# Altium schematic symbol library kmilo17pet-TI_BattMgmt.SchLib: 950 symbols (part 10 of 60)
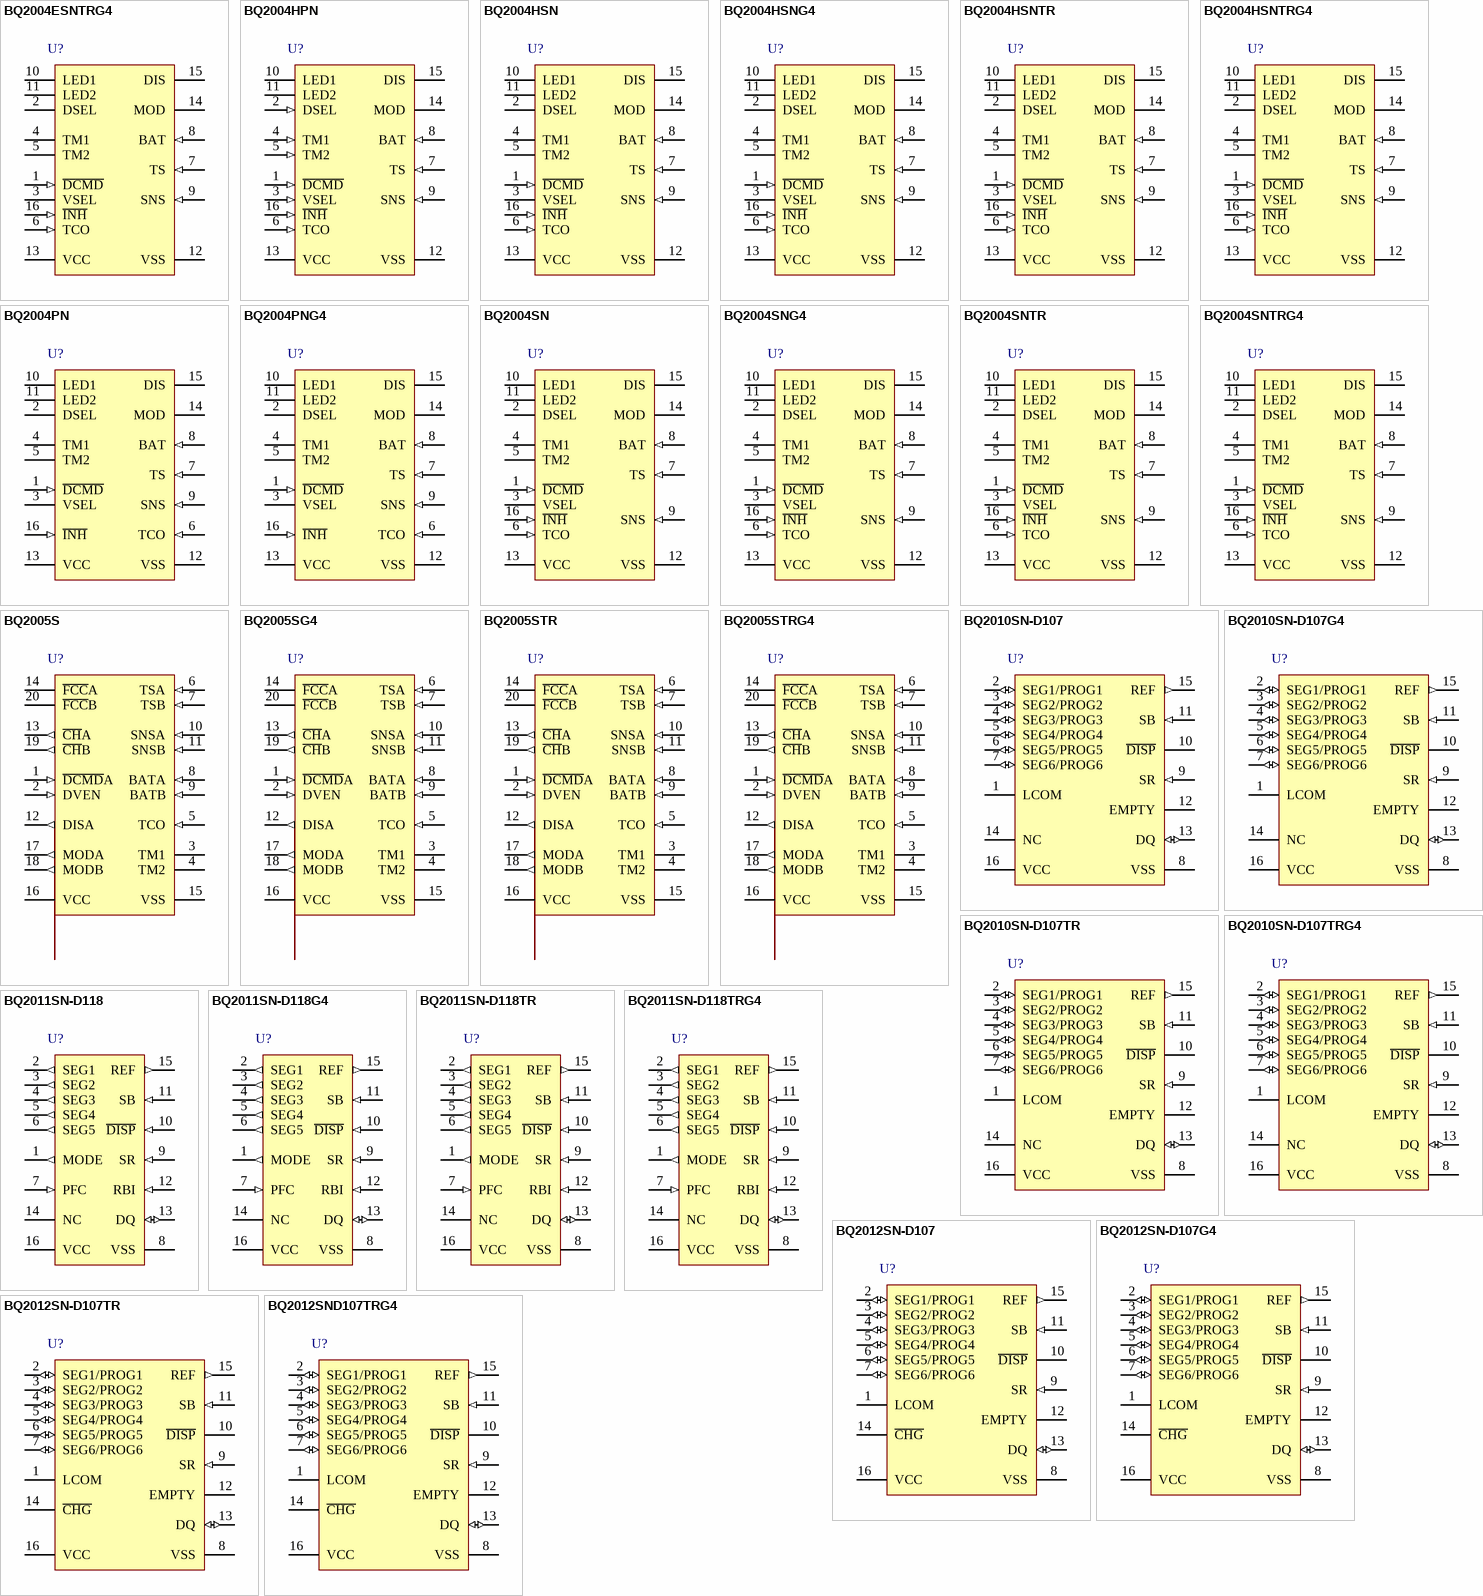
[diagram p43: symbols BQ2004ESNTRG4 to BQ2012SND107TRG4]

## BQ2004SN
designator U?
Switch-Mode NiCd / NiMH Battery Charger with Negative dV, Peak Voltage Detection, dT / dt Termination, 4.5 V, -20 to 70 degC, 16-pin SOIC (D), Green (RoHS & no Sb/Br); PartNumber: BQ2004SN; Manufacturer: Texas Instruments; Lead Acid: N; NiCd: Y; SubFamily: Battery Charge Management; Vin(Min)(V): 4.5; DatasheetVersion: SLUS063B; PackageVersion: revM, Jun-2011; PackageReference: D16; PackageDescription: 16-Pin Plastic Small Outline Integrated Circuit, 9.9 x 3.9 mm, Pitch 1.27 mm Pitch; Supplier 1: Digi-Key; Supplier Part Number 1: 296-9337-5-ND; Supplier Part Number 3: 74K3705; Eco-Plan: Green (RoHS & no Sb/Br); Li-Ion: N; Li-Polymer: N; NiMH: Y; Over Voltage Protection: N; Mounting Technology: Surface Mount; Code_JEDEC: MS-012AC; ComponentLink1Description: Datasheet; ComponentLink1URL: http://www.ti.com/general/docs/lit/getliterature.tsp?genericPartNumber=BQ2004&fileType=pdf
footprint D16_N (SOIC, 16-Leads, Body 9.9x3.9mm, Pitch 1.27mm, IPC Medium Density)
footprint D16_L (SOIC, 16-Leads, Body 9.9x3.9mm, Pitch 1.27mm, IPC High Density)
footprint D16_M (SOIC, 16-Leads, Body 9.9x3.9mm, Pitch 1.27mm, IPC Low Density)
pins: 1 ~{DCMD} (in) "The D\C\M\D\ input controls the conditions that enable discharge-before-charge.D\C\M\D\ is pulled up internally. A negative-going pulse on D\C\M\D\ initiates a discharge to endof- discharge voltage (EDV) on the BAT (See Datasheet)", 2 DSEL "This three-state input configures the charge status display mode of the LED1 and LED2 outputs and can be used to disable top-off and pulsed-trickle. See Table 2.", 3 VSEL "This three-state input controls the voltagetermination technique used by the bq2004. When high, PVD is active.When floating, -deltaV is used. When pulled low,both PVD and -deltaV are disabled.", 4 TM1 "TM1 is three-state input that configure the fast charge safety timer, voltage termination hold-off time, "top-off",and trickle charge control. See Table 1.", 5 TM2 "TM2 is three-state input that configure the fast charge safety timer, voltage termination hold-off time, "top-off",and trickle charge control. See Table 1.", 6 TCO (in) "Input to set maximum allowable battery temperature. If the potential between TS and SNS is less than the voltage at the TCO input, then fast charge or top-off charge is terminated.", 7 TS (in) "Input, referenced to SNS, for an external thermister monitoring battery temperature.", 8 BAT (in) "BAT is the battery voltage sense input, referenced to SNS. This is created by a highimpedance resistor-divider network connected between the positive and the negative terminals of the battery.", 9 SNS (in) "SNS controls the switching of MOD based on an external sense resistor in the current path of the battery. SNS is the reference potential for both the TS and BAT pins. If SNS is connected to VSS, then MOD switches high at the (See Datasheet)", 10 LED1 (hiz) "Push-pull outputs indicating charging status. See Table 2.", 11 LED2 (hiz) "Push-pull outputs indicating charging status. See Table 2.", 12 VSS (power) "Ground", 13 VCC (power) "5.0V, +/-10% power input.", 14 MOD (hiz) "MOD is a push-pull output that is used to control the charging current to the battery.MOD switches high to enable charging current to flow and low to inhibit charging current flow.", 15 DIS (hiz) "Push-pull output used to control an external transistor to discharge the battery before charging.", 16 ~{INH} (in) "When low, the bq2004 suspends all charge actions, drives all outputs to high impedance,and assumes a low-power operational state. When transitioning from low to high, a new charge cycle is started."

## BQ2004SNG4
designator U?
Switch-Mode NiCd / NiMH Battery Charger with Negative dV, Peak Voltage Detection, dT / dt Termination, 4.5 V, -20 to 70 degC, 16-pin SOIC (D), Green (RoHS & no Sb/Br); PartNumber: BQ2004SNG4; Manufacturer: Texas Instruments; Lead Acid: N; NiCd: Y; SubFamily: Battery Charge Management; Vin(Min)(V): 4.5; DatasheetVersion: SLUS063B; PackageVersion: revM, Jun-2011; PackageReference: D16; PackageDescription: 16-Pin Plastic Small Outline Integrated Circuit, 9.9 x 3.9 mm, Pitch 1.27 mm Pitch; Supplier 1: Digi-Key; Supplier Part Number 1: BQ2004SNG4-ND; Supplier Part Number 3: 595-BQ2004SNG4; Eco-Plan: Green (RoHS & no Sb/Br); Li-Ion: N; Li-Polymer: N; NiMH: Y; Over Voltage Protection: N; Mounting Technology: Surface Mount; Code_JEDEC: MS-012AC; ComponentLink1Description: Datasheet; ComponentLink1URL: http://www.ti.com/general/docs/lit/getliterature.tsp?genericPartNumber=BQ2004&fileType=pdf
footprint D16_N (SOIC, 16-Leads, Body 9.9x3.9mm, Pitch 1.27mm, IPC Medium Density)
footprint D16_L (SOIC, 16-Leads, Body 9.9x3.9mm, Pitch 1.27mm, IPC High Density)
footprint D16_M (SOIC, 16-Leads, Body 9.9x3.9mm, Pitch 1.27mm, IPC Low Density)
pins: 1 ~{DCMD} (in) "The D\C\M\D\ input controls the conditions that enable discharge-before-charge.D\C\M\D\ is pulled up internally. A negative-going pulse on D\C\M\D\ initiates a discharge to endof- discharge voltage (EDV) on the BAT (See Datasheet)", 2 DSEL "This three-state input configures the charge status display mode of the LED1 and LED2 outputs and can be used to disable top-off and pulsed-trickle. See Table 2.", 3 VSEL "This three-state input controls the voltagetermination technique used by the bq2004. When high, PVD is active.When floating, -deltaV is used. When pulled low,both PVD and -deltaV are disabled.", 4 TM1 "TM1 is three-state input that configure the fast charge safety timer, voltage termination hold-off time, "top-off",and trickle charge control. See Table 1.", 5 TM2 "TM2 is three-state input that configure the fast charge safety timer, voltage termination hold-off time, "top-off",and trickle charge control. See Table 1.", 6 TCO (in) "Input to set maximum allowable battery temperature. If the potential between TS and SNS is less than the voltage at the TCO input, then fast charge or top-off charge is terminated.", 7 TS (in) "Input, referenced to SNS, for an external thermister monitoring battery temperature.", 8 BAT (in) "BAT is the battery voltage sense input, referenced to SNS. This is created by a highimpedance resistor-divider network connected between the positive and the negative terminals of the battery.", 9 SNS (in) "SNS controls the switching of MOD based on an external sense resistor in the current path of the battery. SNS is the reference potential for both the TS and BAT pins. If SNS is connected to VSS, then MOD switches high at the (See Datasheet)", 10 LED1 (hiz) "Push-pull outputs indicating charging status. See Table 2.", 11 LED2 (hiz) "Push-pull outputs indicating charging status. See Table 2.", 12 VSS (power) "Ground", 13 VCC (power) "5.0V, +/-10% power input.", 14 MOD (hiz) "MOD is a push-pull output that is used to control the charging current to the battery.MOD switches high to enable charging current to flow and low to inhibit charging current flow.", 15 DIS (hiz) "Push-pull output used to control an external transistor to discharge the battery before charging.", 16 ~{INH} (in) "When low, the bq2004 suspends all charge actions, drives all outputs to high impedance,and assumes a low-power operational state. When transitioning from low to high, a new charge cycle is started."

## BQ2004SNTR
designator U?
Switch-Mode NiCd / NiMH Battery Charger with Negative dV, Peak Voltage Detection, dT / dt Termination, 4.5 V, -20 to 70 degC, 16-pin SOIC (D), Green (RoHS & no Sb/Br); PartNumber: BQ2004SNTR; Manufacturer: Texas Instruments; Lead Acid: N; NiCd: Y; SubFamily: Battery Charge Management; Vin(Min)(V): 4.5; DatasheetVersion: SLUS063B; PackageVersion: revM, Jun-2011; PackageReference: D16; PackageDescription: 16-Pin Plastic Small Outline Integrated Circuit, 9.9 x 3.9 mm, Pitch 1.27 mm Pitch; Supplier 1: Digi-Key; Supplier Part Number 1: BQ2004SNTR-ND; Supplier Part Number 3: 595-BQ2004SNTR; Eco-Plan: Green (RoHS & no Sb/Br); Li-Ion: N; Li-Polymer: N; NiMH: Y; Over Voltage Protection: N; Mounting Technology: Surface Mount; Code_JEDEC: MS-012AC; ComponentLink1Description: Datasheet; ComponentLink1URL: http://www.ti.com/general/docs/lit/getliterature.tsp?genericPartNumber=BQ2004&fileType=pdf
footprint D16_N (SOIC, 16-Leads, Body 9.9x3.9mm, Pitch 1.27mm, IPC Medium Density)
footprint D16_L (SOIC, 16-Leads, Body 9.9x3.9mm, Pitch 1.27mm, IPC High Density)
footprint D16_M (SOIC, 16-Leads, Body 9.9x3.9mm, Pitch 1.27mm, IPC Low Density)
pins: 1 ~{DCMD} (in) "The D\C\M\D\ input controls the conditions that enable discharge-before-charge.D\C\M\D\ is pulled up internally. A negative-going pulse on D\C\M\D\ initiates a discharge to endof- discharge voltage (EDV) on the BAT (See Datasheet)", 2 DSEL "This three-state input configures the charge status display mode of the LED1 and LED2 outputs and can be used to disable top-off and pulsed-trickle. See Table 2.", 3 VSEL "This three-state input controls the voltagetermination technique used by the bq2004. When high, PVD is active.When floating, -deltaV is used. When pulled low,both PVD and -deltaV are disabled.", 4 TM1 "TM1 is three-state input that configure the fast charge safety timer, voltage termination hold-off time, "top-off",and trickle charge control. See Table 1.", 5 TM2 "TM2 is three-state input that configure the fast charge safety timer, voltage termination hold-off time, "top-off",and trickle charge control. See Table 1.", 6 TCO (in) "Input to set maximum allowable battery temperature. If the potential between TS and SNS is less than the voltage at the TCO input, then fast charge or top-off charge is terminated.", 7 TS (in) "Input, referenced to SNS, for an external thermister monitoring battery temperature.", 8 BAT (in) "BAT is the battery voltage sense input, referenced to SNS. This is created by a highimpedance resistor-divider network connected between the positive and the negative terminals of the battery.", 9 SNS (in) "SNS controls the switching of MOD based on an external sense resistor in the current path of the battery. SNS is the reference potential for both the TS and BAT pins. If SNS is connected to VSS, then MOD switches high at the (See Datasheet)", 10 LED1 (hiz) "Push-pull outputs indicating charging status. See Table 2.", 11 LED2 (hiz) "Push-pull outputs indicating charging status. See Table 2.", 12 VSS (power) "Ground", 13 VCC (power) "5.0V, +/-10% power input.", 14 MOD (hiz) "MOD is a push-pull output that is used to control the charging current to the battery.MOD switches high to enable charging current to flow and low to inhibit charging current flow.", 15 DIS (hiz) "Push-pull output used to control an external transistor to discharge the battery before charging.", 16 ~{INH} (in) "When low, the bq2004 suspends all charge actions, drives all outputs to high impedance,and assumes a low-power operational state. When transitioning from low to high, a new charge cycle is started."

## BQ2004SNTRG4
designator U?
Switch-Mode NiCd / NiMH Battery Charger with Negative dV, Peak Voltage Detection, dT / dt Termination, 4.5 V, -20 to 70 degC, 16-pin SOIC (D), Green (RoHS & no Sb/Br); PartNumber: BQ2004SNTRG4; Manufacturer: Texas Instruments; Lead Acid: N; NiCd: Y; SubFamily: Battery Charge Management; Vin(Min)(V): 4.5; DatasheetVersion: SLUS063B; PackageVersion: revM, Jun-2011; PackageReference: D16; PackageDescription: 16-Pin Plastic Small Outline Integrated Circuit, 9.9 x 3.9 mm, Pitch 1.27 mm Pitch; Supplier 1: Digi-Key; Supplier Part Number 1: BQ2004SNTRG4-ND; Supplier Part Number 3: 595-BQ2004SNTRG4; Eco-Plan: Green (RoHS & no Sb/Br); Li-Ion: N; Li-Polymer: N; NiMH: Y; Over Voltage Protection: N; Mounting Technology: Surface Mount; Code_JEDEC: MS-012AC; ComponentLink1Description: Datasheet; ComponentLink1URL: http://www.ti.com/general/docs/lit/getliterature.tsp?genericPartNumber=BQ2004&fileType=pdf
footprint D16_N (SOIC, 16-Leads, Body 9.9x3.9mm, Pitch 1.27mm, IPC Medium Density)
footprint D16_L (SOIC, 16-Leads, Body 9.9x3.9mm, Pitch 1.27mm, IPC High Density)
footprint D16_M (SOIC, 16-Leads, Body 9.9x3.9mm, Pitch 1.27mm, IPC Low Density)
pins: 1 ~{DCMD} (in) "The D\C\M\D\ input controls the conditions that enable discharge-before-charge.D\C\M\D\ is pulled up internally. A negative-going pulse on D\C\M\D\ initiates a discharge to endof- discharge voltage (EDV) on the BAT (See Datasheet)", 2 DSEL "This three-state input configures the charge status display mode of the LED1 and LED2 outputs and can be used to disable top-off and pulsed-trickle. See Table 2.", 3 VSEL "This three-state input controls the voltagetermination technique used by the bq2004. When high, PVD is active.When floating, -deltaV is used. When pulled low,both PVD and -deltaV are disabled.", 4 TM1 "TM1 is three-state input that configure the fast charge safety timer, voltage termination hold-off time, "top-off",and trickle charge control. See Table 1.", 5 TM2 "TM2 is three-state input that configure the fast charge safety timer, voltage termination hold-off time, "top-off",and trickle charge control. See Table 1.", 6 TCO (in) "Input to set maximum allowable battery temperature. If the potential between TS and SNS is less than the voltage at the TCO input, then fast charge or top-off charge is terminated.", 7 TS (in) "Input, referenced to SNS, for an external thermister monitoring battery temperature.", 8 BAT (in) "BAT is the battery voltage sense input, referenced to SNS. This is created by a highimpedance resistor-divider network connected between the positive and the negative terminals of the battery.", 9 SNS (in) "SNS controls the switching of MOD based on an external sense resistor in the current path of the battery. SNS is the reference potential for both the TS and BAT pins. If SNS is connected to VSS, then MOD switches high at the (See Datasheet)", 10 LED1 (hiz) "Push-pull outputs indicating charging status. See Table 2.", 11 LED2 (hiz) "Push-pull outputs indicating charging status. See Table 2.", 12 VSS (power) "Ground", 13 VCC (power) "5.0V, +/-10% power input.", 14 MOD (hiz) "MOD is a push-pull output that is used to control the charging current to the battery.MOD switches high to enable charging current to flow and low to inhibit charging current flow.", 15 DIS (hiz) "Push-pull output used to control an external transistor to discharge the battery before charging.", 16 ~{INH} (in) "When low, the bq2004 suspends all charge actions, drives all outputs to high impedance,and assumes a low-power operational state. When transitioning from low to high, a new charge cycle is started."

## BQ2005S
designator U?
Switch-Mode NiCd / NiMH Battery Charger for Sequential Charging of Dual Battery Packs , 4.5 V, -20 to 70 degC, 20-pin SOIC (DW), Green (RoHS & no Sb/Br); PartNumber: BQ2005S; Manufacturer: Texas Instruments; Lead Acid: N; NiCd: Y; SubFamily: Battery Charge Management; Vin(Min)(V): 4.5; DatasheetVersion: SLUS079A; PackageVersion: revG, Jan-2011; PackageReference: DW20; PackageDescription: 20-Pin Plastic Small Outline Integrated Circuit, 12.8 x 7.5 mm, Pitch 1.27 mm Pitch; Supplier 1: Digi-Key; Supplier Part Number 1: 296-9338-5-ND; Supplier Part Number 3: 595-BQ2005S; Eco-Plan: Green (RoHS & no Sb/Br); Li-Ion: N; Li-Polymer: N; NiMH: Y; Over Voltage Protection: N; Mounting Technology: Surface Mount; Code_JEDEC: MS-013-AC; ComponentLink1Description: Datasheet; ComponentLink1URL: http://www.ti.com/general/docs/lit/getliterature.tsp?genericPartNumber=BQ2005&fileType=pdf
footprint DW20_N (SOIC, 20-Leads, Body 12.8x7.5mm, Pitch 1.27mm, IPC Medium Density)
footprint DW20_L (SOIC, 20-Leads, Body 12.8x7.5mm, Pitch 1.27mm, IPC High Density)
footprint DW20_M (SOIC, 20-Leads, Body 12.8x7.5mm, Pitch 1.27mm, IPC Low Density)
pins: 1 ~{DCMD}A (in) "Discharge-before-charge control input, battery A. D\C\M\D\A controls the discharge-before-charge function of the bq2005. A negative-going pulse on D\C\M\D\A initiates a discharge to EDV followed by a charge if conditions (See Datasheet)", 2 DVEN (in) "-Delta venable input .This input enables/disables -delta V charge termination. If DVEN is high, the -delta V test is enabled. If DVEN is low, -delta V test is disabled.The state of DVEN may be changed at any time.", 3 TM1 "Timer mode input.TM1 is three-state input that configure the fast charge safety timer, -delta V hold off time, and that enhance/disable top-off.See Table 2.", 4 TM2 "Timer mode input.TM2 is three-state input that configure the fast charge safety timer, -delta V hold off time, and that enhance/disable top-off.See Table 2.", 5 TCO (in) "Temperature cutoff threshold input.Input to set maximum allowable battery temperature.If the potential between TSA and SNSA or TSB and SNSB is less than the voltage at the TCO input,then fast charge or top-off charge is (See Datasheet)", 6 TSA (in) "Temperature sense input.Input,referenced to SNSA or SNSB,respectively,for an external thermistor monitoring battery temperature.", 7 TSB (in) "Temperature sense input.Input,referenced to SNSA or SNSB,respectively,for an external thermistor monitoring battery temperature.", 8 BATA (in) "Voltage input.The battery voltage sense input,referenced to SNSA,B,respectively.This is created by a high-impedance resistor divider network connected between the positive and the negative terminals of the battery.", 9 BATB (in) "Voltage input.The battery voltage sense input,referenced to SNSA,B,respectively.This is created by a high-impedance resistor divider network connected between the positive and the negative terminals of the battery.", 10 SNSA (in) "Charging current sense input,SNSA,B controls the switching of MODA,B based on the voltage across anexternal sense resistor in the current path of the battery.SNS is the reference potential for the TS and BAT pins.If SNS is (See Datasheet)", 11 SNSB (in) "Charging current sense input,SNSA,B controls the switching of MODA,B based on the voltage across anexternal sense resistor in the current path of the battery.SNS is the reference potential for the TS and BAT pins.If SNS is (See Datasheet)", 12 DISA (out) "Discharge control output.Push-pull output used to control an external transistor to discharge battery A before charging.", 13 ~{CH}A (out) "Charge status output.Push-pull output indicating charging status for batteries A and B, respectively. See Figure 1 and Table 2.", 14 ~{FCC}A (oc) "Fast charge complete output.Open-drain outputs indicating fast charge complete for batteries A and B,respectively.See Figure 1 and Table 2.", 15 VSS (power) "Ground", 16 VCC (power) "VCC supply input.5.0 V, +/- 10% power input.", 17 MODA (out) "Charge current control output.MODA,B is a push-pull output that  is used to control the charging current to the battery. MODA,B switches high to enable charging current to flow and low to inhibit charging current flow (See Datasheet)", 18 MODB (out) "Charge current control output.MODA,B is a push-pull output that  is used to control the charging current to the battery. MODA,B switches high to enable charging current to flow and low to inhibit charging current flow (See Datasheet)", 19 ~{CH}B (out) "Charge status output.Push-pull output indicating charging status for batteries A and B,respectively. See Figure1 and Table 2.", 20 ~{FCC}B (oc) "Fast charge complete output.Open-drain output s indicating fast charge complete for batteries A and B,respectively.See Figure1 and Table 2."

## BQ2005SG4
designator U?
Switch-Mode NiCd / NiMH Battery Charger for Sequential Charging of Dual Battery Packs , 4.5 V, -20 to 70 degC, 20-pin SOIC (DW), Green (RoHS & no Sb/Br); PartNumber: BQ2005SG4; Manufacturer: Texas Instruments; Lead Acid: N; NiCd: Y; SubFamily: Battery Charge Management; Vin(Min)(V): 4.5; DatasheetVersion: SLUS079A; PackageVersion: revG, Jan-2011; PackageReference: DW20; PackageDescription: 20-Pin Plastic Small Outline Integrated Circuit, 12.8 x 7.5 mm, Pitch 1.27 mm Pitch; Supplier 1: Digi-Key; Supplier Part Number 1: BQ2005SG4-ND; Supplier Part Number 3: 595-BQ2005SG4; Eco-Plan: Green (RoHS & no Sb/Br); Li-Ion: N; Li-Polymer: N; NiMH: Y; Over Voltage Protection: N; Mounting Technology: Surface Mount; Code_JEDEC: MS-013-AC; ComponentLink1Description: Datasheet; ComponentLink1URL: http://www.ti.com/general/docs/lit/getliterature.tsp?genericPartNumber=BQ2005&fileType=pdf
footprint DW20_N (SOIC, 20-Leads, Body 12.8x7.5mm, Pitch 1.27mm, IPC Medium Density)
footprint DW20_L (SOIC, 20-Leads, Body 12.8x7.5mm, Pitch 1.27mm, IPC High Density)
footprint DW20_M (SOIC, 20-Leads, Body 12.8x7.5mm, Pitch 1.27mm, IPC Low Density)
pins: 1 ~{DCMD}A (in) "Discharge-before-charge control input, battery A. D\C\M\D\A controls the discharge-before-charge function of the bq2005. A negative-going pulse on D\C\M\D\A initiates a discharge to EDV followed by a charge if conditions (See Datasheet)", 2 DVEN (in) "-Delta venable input .This input enables/disables -delta V charge termination. If DVEN is high, the -delta V test is enabled. If DVEN is low, -delta V test is disabled.The state of DVEN may be changed at any time.", 3 TM1 "Timer mode input.TM1 is three-state input that configure the fast charge safety timer, -delta V hold off time, and that enhance/disable top-off.See Table 2.", 4 TM2 "Timer mode input.TM2 is three-state input that configure the fast charge safety timer, -delta V hold off time, and that enhance/disable top-off.See Table 2.", 5 TCO (in) "Temperature cutoff threshold input.Input to set maximum allowable battery temperature.If the potential between TSA and SNSA or TSB and SNSB is less than the voltage at the TCO input,then fast charge or top-off charge is (See Datasheet)", 6 TSA (in) "Temperature sense input.Input,referenced to SNSA or SNSB,respectively,for an external thermistor monitoring battery temperature.", 7 TSB (in) "Temperature sense input.Input,referenced to SNSA or SNSB,respectively,for an external thermistor monitoring battery temperature.", 8 BATA (in) "Voltage input.The battery voltage sense input,referenced to SNSA,B,respectively.This is created by a high-impedance resistor divider network connected between the positive and the negative terminals of the battery.", 9 BATB (in) "Voltage input.The battery voltage sense input,referenced to SNSA,B,respectively.This is created by a high-impedance resistor divider network connected between the positive and the negative terminals of the battery.", 10 SNSA (in) "Charging current sense input,SNSA,B controls the switching of MODA,B based on the voltage across anexternal sense resistor in the current path of the battery.SNS is the reference potential for the TS and BAT pins.If SNS is (See Datasheet)", 11 SNSB (in) "Charging current sense input,SNSA,B controls the switching of MODA,B based on the voltage across anexternal sense resistor in the current path of the battery.SNS is the reference potential for the TS and BAT pins.If SNS is (See Datasheet)", 12 DISA (out) "Discharge control output.Push-pull output used to control an external transistor to discharge battery A before charging.", 13 ~{CH}A (out) "Charge status output.Push-pull output indicating charging status for batteries A and B, respectively. See Figure 1 and Table 2.", 14 ~{FCC}A (oc) "Fast charge complete output.Open-drain outputs indicating fast charge complete for batteries A and B,respectively.See Figure 1 and Table 2.", 15 VSS (power) "Ground", 16 VCC (power) "VCC supply input.5.0 V, +/- 10% power input.", 17 MODA (out) "Charge current control output.MODA,B is a push-pull output that  is used to control the charging current to the battery. MODA,B switches high to enable charging current to flow and low to inhibit charging current flow (See Datasheet)", 18 MODB (out) "Charge current control output.MODA,B is a push-pull output that  is used to control the charging current to the battery. MODA,B switches high to enable charging current to flow and low to inhibit charging current flow (See Datasheet)", 19 ~{CH}B (out) "Charge status output.Push-pull output indicating charging status for batteries A and B,respectively. See Figure1 and Table 2.", 20 ~{FCC}B (oc) "Fast charge complete output.Open-drain output s indicating fast charge complete for batteries A and B,respectively.See Figure1 and Table 2."

## BQ2005STR
designator U?
Switch-Mode NiCd / NiMH Battery Charger for Sequential Charging of Dual Battery Packs , 4.5 V, -20 to 70 degC, 20-pin SOIC (DW), Green (RoHS & no Sb/Br); PartNumber: BQ2005STR; Manufacturer: Texas Instruments; Lead Acid: N; NiCd: Y; SubFamily: Battery Charge Management; Vin(Min)(V): 4.5; DatasheetVersion: SLUS079A; PackageVersion: revG, Jan-2011; PackageReference: DW20; PackageDescription: 20-Pin Plastic Small Outline Integrated Circuit, 12.8 x 7.5 mm, Pitch 1.27 mm Pitch; Supplier 1: Digi-Key; Supplier Part Number 1: BQ2005STR-ND; Supplier Part Number 3: 595-BQ2005STR; Eco-Plan: Green (RoHS & no Sb/Br); Li-Ion: N; Li-Polymer: N; NiMH: Y; Over Voltage Protection: N; Mounting Technology: Surface Mount; Code_JEDEC: MS-013-AC; ComponentLink1Description: Datasheet; ComponentLink1URL: http://www.ti.com/general/docs/lit/getliterature.tsp?genericPartNumber=BQ2005&fileType=pdf
footprint DW20_N (SOIC, 20-Leads, Body 12.8x7.5mm, Pitch 1.27mm, IPC Medium Density)
footprint DW20_L (SOIC, 20-Leads, Body 12.8x7.5mm, Pitch 1.27mm, IPC High Density)
footprint DW20_M (SOIC, 20-Leads, Body 12.8x7.5mm, Pitch 1.27mm, IPC Low Density)
pins: 1 ~{DCMD}A (in) "Discharge-before-charge control input, battery A. D\C\M\D\A controls the discharge-before-charge function of the bq2005. A negative-going pulse on D\C\M\D\A initiates a discharge to EDV followed by a charge if conditions (See Datasheet)", 2 DVEN (in) "-Delta venable input .This input enables/disables -delta V charge termination. If DVEN is high, the -delta V test is enabled. If DVEN is low, -delta V test is disabled.The state of DVEN may be changed at any time.", 3 TM1 "Timer mode input.TM1 is three-state input that configure the fast charge safety timer, -delta V hold off time, and that enhance/disable top-off.See Table 2.", 4 TM2 "Timer mode input.TM2 is three-state input that configure the fast charge safety timer, -delta V hold off time, and that enhance/disable top-off.See Table 2.", 5 TCO (in) "Temperature cutoff threshold input.Input to set maximum allowable battery temperature.If the potential between TSA and SNSA or TSB and SNSB is less than the voltage at the TCO input,then fast charge or top-off charge is (See Datasheet)", 6 TSA (in) "Temperature sense input.Input,referenced to SNSA or SNSB,respectively,for an external thermistor monitoring battery temperature.", 7 TSB (in) "Temperature sense input.Input,referenced to SNSA or SNSB,respectively,for an external thermistor monitoring battery temperature.", 8 BATA (in) "Voltage input.The battery voltage sense input,referenced to SNSA,B,respectively.This is created by a high-impedance resistor divider network connected between the positive and the negative terminals of the battery.", 9 BATB (in) "Voltage input.The battery voltage sense input,referenced to SNSA,B,respectively.This is created by a high-impedance resistor divider network connected between the positive and the negative terminals of the battery.", 10 SNSA (in) "Charging current sense input,SNSA,B controls the switching of MODA,B based on the voltage across anexternal sense resistor in the current path of the battery.SNS is the reference potential for the TS and BAT pins.If SNS is (See Datasheet)", 11 SNSB (in) "Charging current sense input,SNSA,B controls the switching of MODA,B based on the voltage across anexternal sense resistor in the current path of the battery.SNS is the reference potential for the TS and BAT pins.If SNS is (See Datasheet)", 12 DISA (out) "Discharge control output.Push-pull output used to control an external transistor to discharge battery A before charging.", 13 ~{CH}A (out) "Charge status output.Push-pull output indicating charging status for batteries A and B, respectively. See Figure 1 and Table 2.", 14 ~{FCC}A (oc) "Fast charge complete output.Open-drain outputs indicating fast charge complete for batteries A and B,respectively.See Figure 1 and Table 2.", 15 VSS (power) "Ground", 16 VCC (power) "VCC supply input.5.0 V, +/- 10% power input.", 17 MODA (out) "Charge current control output.MODA,B is a push-pull output that  is used to control the charging current to the battery. MODA,B switches high to enable charging current to flow and low to inhibit charging current flow (See Datasheet)", 18 MODB (out) "Charge current control output.MODA,B is a push-pull output that  is used to control the charging current to the battery. MODA,B switches high to enable charging current to flow and low to inhibit charging current flow (See Datasheet)", 19 ~{CH}B (out) "Charge status output.Push-pull output indicating charging status for batteries A and B,respectively. See Figure1 and Table 2.", 20 ~{FCC}B (oc) "Fast charge complete output.Open-drain output s indicating fast charge complete for batteries A and B,respectively.See Figure1 and Table 2."

## BQ2005STRG4
designator U?
Switch-Mode NiCd / NiMH Battery Charger for Sequential Charging of Dual Battery Packs , 4.5 V, -20 to 70 degC, 20-pin SOIC (DW), Green (RoHS & no Sb/Br); PartNumber: BQ2005STRG4; Manufacturer: Texas Instruments; Lead Acid: N; NiCd: Y; SubFamily: Battery Charge Management; Vin(Min)(V): 4.5; DatasheetVersion: SLUS079A; PackageVersion: revG, Jan-2011; PackageReference: DW20; PackageDescription: 20-Pin Plastic Small Outline Integrated Circuit, 12.8 x 7.5 mm, Pitch 1.27 mm Pitch; Supplier 1: Digi-Key; Supplier Part Number 1: BQ2005STRG4-ND; Eco-Plan: Green (RoHS & no Sb/Br); Li-Ion: N; Li-Polymer: N; NiMH: Y; Over Voltage Protection: N; Mounting Technology: Surface Mount; Code_JEDEC: MS-013-AC; ComponentLink1Description: Datasheet; ComponentLink1URL: http://www.ti.com/general/docs/lit/getliterature.tsp?genericPartNumber=BQ2005&fileType=pdf
footprint DW20_N (SOIC, 20-Leads, Body 12.8x7.5mm, Pitch 1.27mm, IPC Medium Density)
footprint DW20_L (SOIC, 20-Leads, Body 12.8x7.5mm, Pitch 1.27mm, IPC High Density)
footprint DW20_M (SOIC, 20-Leads, Body 12.8x7.5mm, Pitch 1.27mm, IPC Low Density)
pins: 1 ~{DCMD}A (in) "Discharge-before-charge control input, battery A. D\C\M\D\A controls the discharge-before-charge function of the bq2005. A negative-going pulse on D\C\M\D\A initiates a discharge to EDV followed by a charge if conditions (See Datasheet)", 2 DVEN (in) "-Delta venable input .This input enables/disables -delta V charge termination. If DVEN is high, the -delta V test is enabled. If DVEN is low, -delta V test is disabled.The state of DVEN may be changed at any time.", 3 TM1 "Timer mode input.TM1 is three-state input that configure the fast charge safety timer, -delta V hold off time, and that enhance/disable top-off.See Table 2.", 4 TM2 "Timer mode input.TM2 is three-state input that configure the fast charge safety timer, -delta V hold off time, and that enhance/disable top-off.See Table 2.", 5 TCO (in) "Temperature cutoff threshold input.Input to set maximum allowable battery temperature.If the potential between TSA and SNSA or TSB and SNSB is less than the voltage at the TCO input,then fast charge or top-off charge is (See Datasheet)", 6 TSA (in) "Temperature sense input.Input,referenced to SNSA or SNSB,respectively,for an external thermistor monitoring battery temperature.", 7 TSB (in) "Temperature sense input.Input,referenced to SNSA or SNSB,respectively,for an external thermistor monitoring battery temperature.", 8 BATA (in) "Voltage input.The battery voltage sense input,referenced to SNSA,B,respectively.This is created by a high-impedance resistor divider network connected between the positive and the negative terminals of the battery.", 9 BATB (in) "Voltage input.The battery voltage sense input,referenced to SNSA,B,respectively.This is created by a high-impedance resistor divider network connected between the positive and the negative terminals of the battery.", 10 SNSA (in) "Charging current sense input,SNSA,B controls the switching of MODA,B based on the voltage across anexternal sense resistor in the current path of the battery.SNS is the reference potential for the TS and BAT pins.If SNS is (See Datasheet)", 11 SNSB (in) "Charging current sense input,SNSA,B controls the switching of MODA,B based on the voltage across anexternal sense resistor in the current path of the battery.SNS is the reference potential for the TS and BAT pins.If SNS is (See Datasheet)", 12 DISA (out) "Discharge control output.Push-pull output used to control an external transistor to discharge battery A before charging.", 13 ~{CH}A (out) "Charge status output.Push-pull output indicating charging status for batteries A and B, respectively. See Figure 1 and Table 2.", 14 ~{FCC}A (oc) "Fast charge complete output.Open-drain outputs indicating fast charge complete for batteries A and B,respectively.See Figure 1 and Table 2.", 15 VSS (power) "Ground", 16 VCC (power) "VCC supply input.5.0 V, +/- 10% power input.", 17 MODA (out) "Charge current control output.MODA,B is a push-pull output that  is used to control the charging current to the battery. MODA,B switches high to enable charging current to flow and low to inhibit charging current flow (See Datasheet)", 18 MODB (out) "Charge current control output.MODA,B is a push-pull output that  is used to control the charging current to the battery. MODA,B switches high to enable charging current to flow and low to inhibit charging current flow (See Datasheet)", 19 ~{CH}B (out) "Charge status output.Push-pull output indicating charging status for batteries A and B,respectively. See Figure1 and Table 2.", 20 ~{FCC}B (oc) "Fast charge complete output.Open-drain output s indicating fast charge complete for batteries A and B,respectively.See Figure1 and Table 2."

## BQ2010SN-D107
designator U?
NiCd / NiMH Gas Gauge with 1-Wire (DQ) Interface and 5 LED Drivers, 0 to 70 degC, 16-pin SOIC (D), Green (RoHS & no Sb/Br); PartNumber: BQ2010SN-D107; Manufacturer: Texas Instruments; Lead Acid: N; NiCd: Y; SubFamily: Battery Fuel Gauge; PackageVersion: revM, Jun-2011; PackageReference: D16; PackageDescription: 16-Pin Plastic Small Outline Integrated Circuit, 9.9 x 3.9 mm, Pitch 1.27 mm Pitch; Supplier 1: Digi-Key; Supplier Part Number 1: 296-2218-5-ND; Supplier Part Number 3: 595-BQ2010SN-D107; Eco-Plan: Green (RoHS & no Sb/Br); Li-Ion: N; Li-Polymer: N; NiMH: Y; Over Voltage Protection: N; Mounting Technology: Surface Mount; Code_JEDEC: MS-012AC; ComponentLink1Description: Datasheet; ComponentLink1URL: http://www.ti.com/general/docs/lit/getliterature.tsp?genericPartNumber=BQ2010&fileType=pdf
footprint D16_N (SOIC, 16-Leads, Body 9.9x3.9mm, Pitch 1.27mm, IPC Medium Density)
footprint D16_L (SOIC, 16-Leads, Body 9.9x3.9mm, Pitch 1.27mm, IPC High Density)
footprint D16_M (SOIC, 16-Leads, Body 9.9x3.9mm, Pitch 1.27mm, IPC Low Density)
pins: 1 LCOM (hiz) "Open-drain output switches VCC to source current for the LEDs. The switch is off during initialization to allow reading of the soft pull-up or pull-down program resistors. LCOM is also high impedance when the display is off.", 2 SEG1/PROG1 (io) "Each output may activate an LED to sink the current sourced from LCOM. / This three-level input pin defines the programmed full count (PFC) thresholds described in Table 2.", 3 SEG2/PROG2 (io) "Each output may activate an LED to sink the current sourced from LCOM. / This three-level input pin defines the programmed full count (PFC) thresholds described in Table 2.", 4 SEG3/PROG3 (io) "Each output may activate an LED to sink the current sourced from LCOM. / This three-level input pin defines the scale factor described in Table 2.", 5 SEG4/PROG4 (io) "Each output may activate an LED to sink the current sourced from LCOM. / This three-level input pin defines the scale factor described in Table 2.", 6 SEG5/PROG5 (io) "Each output may activate an LED to sink the current sourced from LCOM. / This three-level input pin defines the selfdischarge compensation rate shown in Table 1.", 7 SEG6/PROG6 (io) "Each output may activate an LED to sink the current sourced from LCOM. / This three-level pin defines the display operation shown in Table 1.", 8 VSS (power) "Ground", 9 SR (in) "The voltage drop (VSR) across the sense resistor RS is monitored and integrated over time to interpret charge and discharge activity. The SR input is tied to the high side of the sense resistor. VSR < VSS indicates (See Datasheet)", 10 ~{DISP} "D\I\S\P\ high disables the LED display. D\I\S\P\ tied to VCC allows PROGX to connect directly to VCC or VSS instead of through a pull-up or pull-down resistor. D\I\S\P\ floating allows the LED display to be active during (See Datasheet)", 11 SB (in) "This input monitors the single-cell voltage potential through a high-impedance resistive divider network for end-of-discharge voltage (EDV) thresholds, maximum charge voltage (MCV), and battery removed.", 12 EMPTY (hiz) "This open-drain output becomes high-impedance on detection of a valid end-of-discharge voltage (VEDVF) and is low following the next application of a valid charge.", 13 DQ (io) "This is an open-drain bidirectional pin.", 14 NC "No connect", 15 REF (out) "REF provides a voltage reference output for an optional micro-regulator.", 16 VCC (power) "Supply voltage input."

## BQ2010SN-D107G4
designator U?
NiCd / NiMH Gas Gauge with 1-Wire (DQ) Interface and 5 LED Drivers, 0 to 70 degC, 16-pin SOIC (D), Green (RoHS & no Sb/Br); PartNumber: BQ2010SN-D107G4; Manufacturer: Texas Instruments; Lead Acid: N; NiCd: Y; SubFamily: Battery Fuel Gauge; PackageVersion: revM, Jun-2011; PackageReference: D16; PackageDescription: 16-Pin Plastic Small Outline Integrated Circuit, 9.9 x 3.9 mm, Pitch 1.27 mm Pitch; Supplier 1: Digi-Key; Supplier Part Number 1: BQ2010SN-D107G4-ND; Supplier Part Number 3: 595-BQ2010SN-D107G4; Eco-Plan: Green (RoHS & no Sb/Br); Li-Ion: N; Li-Polymer: N; NiMH: Y; Over Voltage Protection: N; Mounting Technology: Surface Mount; Code_JEDEC: MS-012AC; ComponentLink1Description: Datasheet; ComponentLink1URL: http://www.ti.com/general/docs/lit/getliterature.tsp?genericPartNumber=BQ2010&fileType=pdf
footprint D16_N (SOIC, 16-Leads, Body 9.9x3.9mm, Pitch 1.27mm, IPC Medium Density)
footprint D16_L (SOIC, 16-Leads, Body 9.9x3.9mm, Pitch 1.27mm, IPC High Density)
footprint D16_M (SOIC, 16-Leads, Body 9.9x3.9mm, Pitch 1.27mm, IPC Low Density)
pins: 1 LCOM (hiz) "Open-drain output switches VCC to source current for the LEDs. The switch is off during initialization to allow reading of the soft pull-up or pull-down program resistors. LCOM is also high impedance when the display is off.", 2 SEG1/PROG1 (io) "Each output may activate an LED to sink the current sourced from LCOM. / This three-level input pin defines the programmed full count (PFC) thresholds described in Table 2.", 3 SEG2/PROG2 (io) "Each output may activate an LED to sink the current sourced from LCOM. / This three-level input pin defines the programmed full count (PFC) thresholds described in Table 2.", 4 SEG3/PROG3 (io) "Each output may activate an LED to sink the current sourced from LCOM. / This three-level input pin defines the scale factor described in Table 2.", 5 SEG4/PROG4 (io) "Each output may activate an LED to sink the current sourced from LCOM. / This three-level input pin defines the scale factor described in Table 2.", 6 SEG5/PROG5 (io) "Each output may activate an LED to sink the current sourced from LCOM. / This three-level input pin defines the selfdischarge compensation rate shown in Table 1.", 7 SEG6/PROG6 (io) "Each output may activate an LED to sink the current sourced from LCOM. / This three-level pin defines the display operation shown in Table 1.", 8 VSS (power) "Ground", 9 SR (in) "The voltage drop (VSR) across the sense resistor RS is monitored and integrated over time to interpret charge and discharge activity. The SR input is tied to the high side of the sense resistor. VSR < VSS indicates (See Datasheet)", 10 ~{DISP} "D\I\S\P\ high disables the LED display. D\I\S\P\ tied to VCC allows PROGX to connect directly to VCC or VSS instead of through a pull-up or pull-down resistor. D\I\S\P\ floating allows the LED display to be active during (See Datasheet)", 11 SB (in) "This input monitors the single-cell voltage potential through a high-impedance resistive divider network for end-of-discharge voltage (EDV) thresholds, maximum charge voltage (MCV), and battery removed.", 12 EMPTY (hiz) "This open-drain output becomes high-impedance on detection of a valid end-of-discharge voltage (VEDVF) and is low following the next application of a valid charge.", 13 DQ (io) "This is an open-drain bidirectional pin.", 14 NC "No connect", 15 REF (out) "REF provides a voltage reference output for an optional micro-regulator.", 16 VCC (power) "Supply voltage input."

## BQ2010SN-D107TR
designator U?
NiCd / NiMH Gas Gauge with 1-Wire (DQ) Interface and 5 LED Drivers, 0 to 70 degC, 16-pin SOIC (D), Green (RoHS & no Sb/Br); PartNumber: BQ2010SN-D107TR; Manufacturer: Texas Instruments; Lead Acid: N; NiCd: Y; SubFamily: Battery Fuel Gauge; PackageVersion: revM, Jun-2011; PackageReference: D16; PackageDescription: 16-Pin Plastic Small Outline Integrated Circuit, 9.9 x 3.9 mm, Pitch 1.27 mm Pitch; Supplier 1: Digi-Key; Supplier Part Number 1: BQ2010SN-D107TR-ND; Supplier Part Number 3: 595-BQ2010SN-D107TR; Eco-Plan: Green (RoHS & no Sb/Br); Li-Ion: N; Li-Polymer: N; NiMH: Y; Over Voltage Protection: N; Mounting Technology: Surface Mount; Code_JEDEC: MS-012AC; ComponentLink1Description: Datasheet; ComponentLink1URL: http://www.ti.com/general/docs/lit/getliterature.tsp?genericPartNumber=BQ2010&fileType=pdf
footprint D16_N (SOIC, 16-Leads, Body 9.9x3.9mm, Pitch 1.27mm, IPC Medium Density)
footprint D16_L (SOIC, 16-Leads, Body 9.9x3.9mm, Pitch 1.27mm, IPC High Density)
footprint D16_M (SOIC, 16-Leads, Body 9.9x3.9mm, Pitch 1.27mm, IPC Low Density)
pins: 1 LCOM (hiz) "Open-drain output switches VCC to source current for the LEDs. The switch is off during initialization to allow reading of the soft pull-up or pull-down program resistors. LCOM is also high impedance when the display is off.", 2 SEG1/PROG1 (io) "Each output may activate an LED to sink the current sourced from LCOM. / This three-level input pin defines the programmed full count (PFC) thresholds described in Table 2.", 3 SEG2/PROG2 (io) "Each output may activate an LED to sink the current sourced from LCOM. / This three-level input pin defines the programmed full count (PFC) thresholds described in Table 2.", 4 SEG3/PROG3 (io) "Each output may activate an LED to sink the current sourced from LCOM. / This three-level input pin defines the scale factor described in Table 2.", 5 SEG4/PROG4 (io) "Each output may activate an LED to sink the current sourced from LCOM. / This three-level input pin defines the scale factor described in Table 2.", 6 SEG5/PROG5 (io) "Each output may activate an LED to sink the current sourced from LCOM. / This three-level input pin defines the selfdischarge compensation rate shown in Table 1.", 7 SEG6/PROG6 (io) "Each output may activate an LED to sink the current sourced from LCOM. / This three-level pin defines the display operation shown in Table 1.", 8 VSS (power) "Ground", 9 SR (in) "The voltage drop (VSR) across the sense resistor RS is monitored and integrated over time to interpret charge and discharge activity. The SR input is tied to the high side of the sense resistor. VSR < VSS indicates (See Datasheet)", 10 ~{DISP} "D\I\S\P\ high disables the LED display. D\I\S\P\ tied to VCC allows PROGX to connect directly to VCC or VSS instead of through a pull-up or pull-down resistor. D\I\S\P\ floating allows the LED display to be active during (See Datasheet)", 11 SB (in) "This input monitors the single-cell voltage potential through a high-impedance resistive divider network for end-of-discharge voltage (EDV) thresholds, maximum charge voltage (MCV), and battery removed.", 12 EMPTY (hiz) "This open-drain output becomes high-impedance on detection of a valid end-of-discharge voltage (VEDVF) and is low following the next application of a valid charge.", 13 DQ (io) "This is an open-drain bidirectional pin.", 14 NC "No connect", 15 REF (out) "REF provides a voltage reference output for an optional micro-regulator.", 16 VCC (power) "Supply voltage input."

## BQ2010SN-D107TRG4
designator U?
NiCd / NiMH Gas Gauge with 1-Wire (DQ) Interface and 5 LED Drivers, 0 to 70 degC, 16-pin SOIC (D), Green (RoHS & no Sb/Br); PartNumber: BQ2010SN-D107TRG4; Manufacturer: Texas Instruments; Lead Acid: N; NiCd: Y; SubFamily: Battery Fuel Gauge; PackageVersion: revM, Jun-2011; PackageReference: D16; PackageDescription: 16-Pin Plastic Small Outline Integrated Circuit, 9.9 x 3.9 mm, Pitch 1.27 mm Pitch; Supplier 1: Digi-Key; Supplier Part Number 1: BQ2010SN-D107TRG4-ND; Supplier Part Number 3: 595-BQ2010SND107TRG4; Eco-Plan: Green (RoHS & no Sb/Br); Li-Ion: N; Li-Polymer: N; NiMH: Y; Over Voltage Protection: N; Mounting Technology: Surface Mount; Code_JEDEC: MS-012AC; ComponentLink1Description: Datasheet; ComponentLink1URL: http://www.ti.com/general/docs/lit/getliterature.tsp?genericPartNumber=BQ2010&fileType=pdf
footprint D16_N (SOIC, 16-Leads, Body 9.9x3.9mm, Pitch 1.27mm, IPC Medium Density)
footprint D16_L (SOIC, 16-Leads, Body 9.9x3.9mm, Pitch 1.27mm, IPC High Density)
footprint D16_M (SOIC, 16-Leads, Body 9.9x3.9mm, Pitch 1.27mm, IPC Low Density)
pins: 1 LCOM (hiz) "Open-drain output switches VCC to source current for the LEDs. The switch is off during initialization to allow reading of the soft pull-up or pull-down program resistors. LCOM is also high impedance when the display is off.", 2 SEG1/PROG1 (io) "Each output may activate an LED to sink the current sourced from LCOM. / This three-level input pin defines the programmed full count (PFC) thresholds described in Table 2.", 3 SEG2/PROG2 (io) "Each output may activate an LED to sink the current sourced from LCOM. / This three-level input pin defines the programmed full count (PFC) thresholds described in Table 2.", 4 SEG3/PROG3 (io) "Each output may activate an LED to sink the current sourced from LCOM. / This three-level input pin defines the scale factor described in Table 2.", 5 SEG4/PROG4 (io) "Each output may activate an LED to sink the current sourced from LCOM. / This three-level input pin defines the scale factor described in Table 2.", 6 SEG5/PROG5 (io) "Each output may activate an LED to sink the current sourced from LCOM. / This three-level input pin defines the selfdischarge compensation rate shown in Table 1.", 7 SEG6/PROG6 (io) "Each output may activate an LED to sink the current sourced from LCOM. / This three-level pin defines the display operation shown in Table 1.", 8 VSS (power) "Ground", 9 SR (in) "The voltage drop (VSR) across the sense resistor RS is monitored and integrated over time to interpret charge and discharge activity. The SR input is tied to the high side of the sense resistor. VSR < VSS indicates (See Datasheet)", 10 ~{DISP} "D\I\S\P\ high disables the LED display. D\I\S\P\ tied to VCC allows PROGX to connect directly to VCC or VSS instead of through a pull-up or pull-down resistor. D\I\S\P\ floating allows the LED display to be active during (See Datasheet)", 11 SB (in) "This input monitors the single-cell voltage potential through a high-impedance resistive divider network for end-of-discharge voltage (EDV) thresholds, maximum charge voltage (MCV), and battery removed.", 12 EMPTY (hiz) "This open-drain output becomes high-impedance on detection of a valid end-of-discharge voltage (VEDVF) and is low following the next application of a valid charge.", 13 DQ (io) "This is an open-drain bidirectional pin.", 14 NC "No connect", 15 REF (out) "REF provides a voltage reference output for an optional micro-regulator.", 16 VCC (power) "Supply voltage input."